# Altium footprint library AB11BB-HA.PcbLib: 1 footprints
Each footprint in its own frame and in the unit in brackets; x right, y up, seen from the top. Pads: shape width x height; smd on the part's side, far side on the other; paste and mask are expansions set on the pad; w line width, h text height; cw(c..) or ccw(c..) is an arc to the next point about the centre after c.
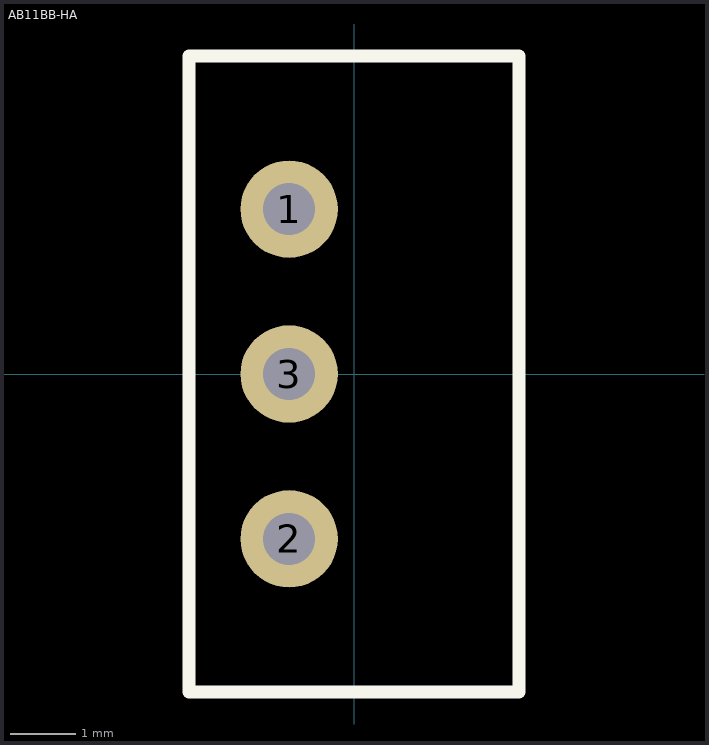
[diagram p0: the footprint, top view; thin cyan lines are the x and y axes]

## AB11BB-HA [mm] "Pushbutton"
pads (3):
  round 1.5 hole 0.8: 1(-1,2.54) 2(-1,-2.54) 3(-1,0)
Top Overlay:
  lines w0.2: -2.54,-4.9 -2.54,4.9 2.54,4.9 2.54,-4.9 -2.54,-4.9